# EAGLE library part 2420-14? (library con-wieson-2420)
2.0mm 2420-14 - 14 pin Source: http://www.jm.pl/karty/2420-XXXT1X-C.pdf
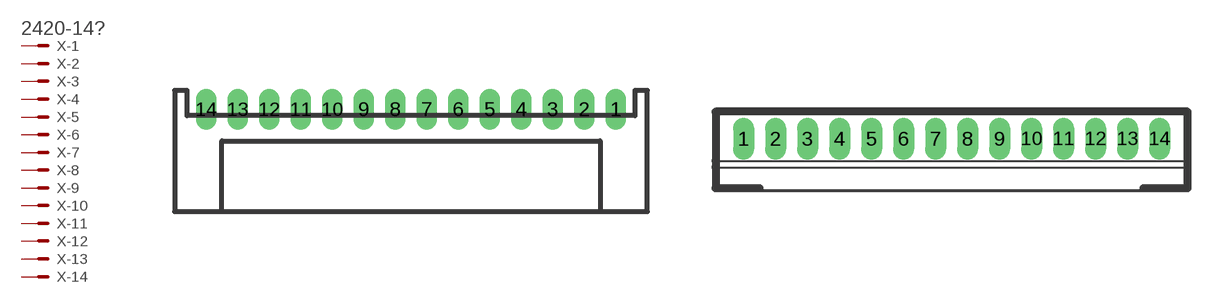
[diagram p3: symbol with the pads of 2420-14R; footprints 2420-14R, 2420-14S]

Designator prefix X; gates -1=MV -2=M -3=M -4=M -5=M -6=M -7=M -8=M -9=M -10=M -11=M -12=M -13=M -14=M

## 2420-14R  [2420-14R]
1  -1:>NAME$
2  -2:>NAME$
3  -3:>NAME$
4  -4:>NAME$
5  -5:>NAME$
6  -6:>NAME$
7  -7:>NAME$
8  -8:>NAME$
9  -9:>NAME$
10  -10:>NAME$
11  -11:>NAME$
12  -12:>NAME$
13  -13:>NAME$
14  -14:>NAME$

## 2420-14S  [2420-14S]
Pads as for 2420-14R

## Footprint 2420-14R (pad centres in mm)
2.0mm right angle 2420-14 - 14 pin Source: http://www.jm.pl/karty/2420-XXXT1X-C.pdf
drill 0.8 long: 1 13,0; 2 11,0; 3 9,0; 4 7,0; 5 5,0; 6 3,0; 7 1,0; 8 -1,0; 9 -3,0; 10 -5,0; 11 -7,0; 12 -9,0; 13 -11,0; 14 -13,0

## Footprint 2420-14S (pad centres in mm)
2.0mm straight 2420-14 - 14 pin Source: http://www.jm.pl/karty/2420-XXXT1X-C.pdf
drill 0.8 long: 1 -13,0; 2 -11,0; 3 -9,0; 4 -7,0; 5 -5,0; 6 -3,0; 7 -1,0; 8 1,0; 9 3,0; 10 5,0; 11 7,0; 12 9,0; 13 11,0; 14 13,0